# Altium schematic symbol library ERN.SchLib: 24 symbols
Pins are listed as number, name and electrical type; pins without a type are passive.

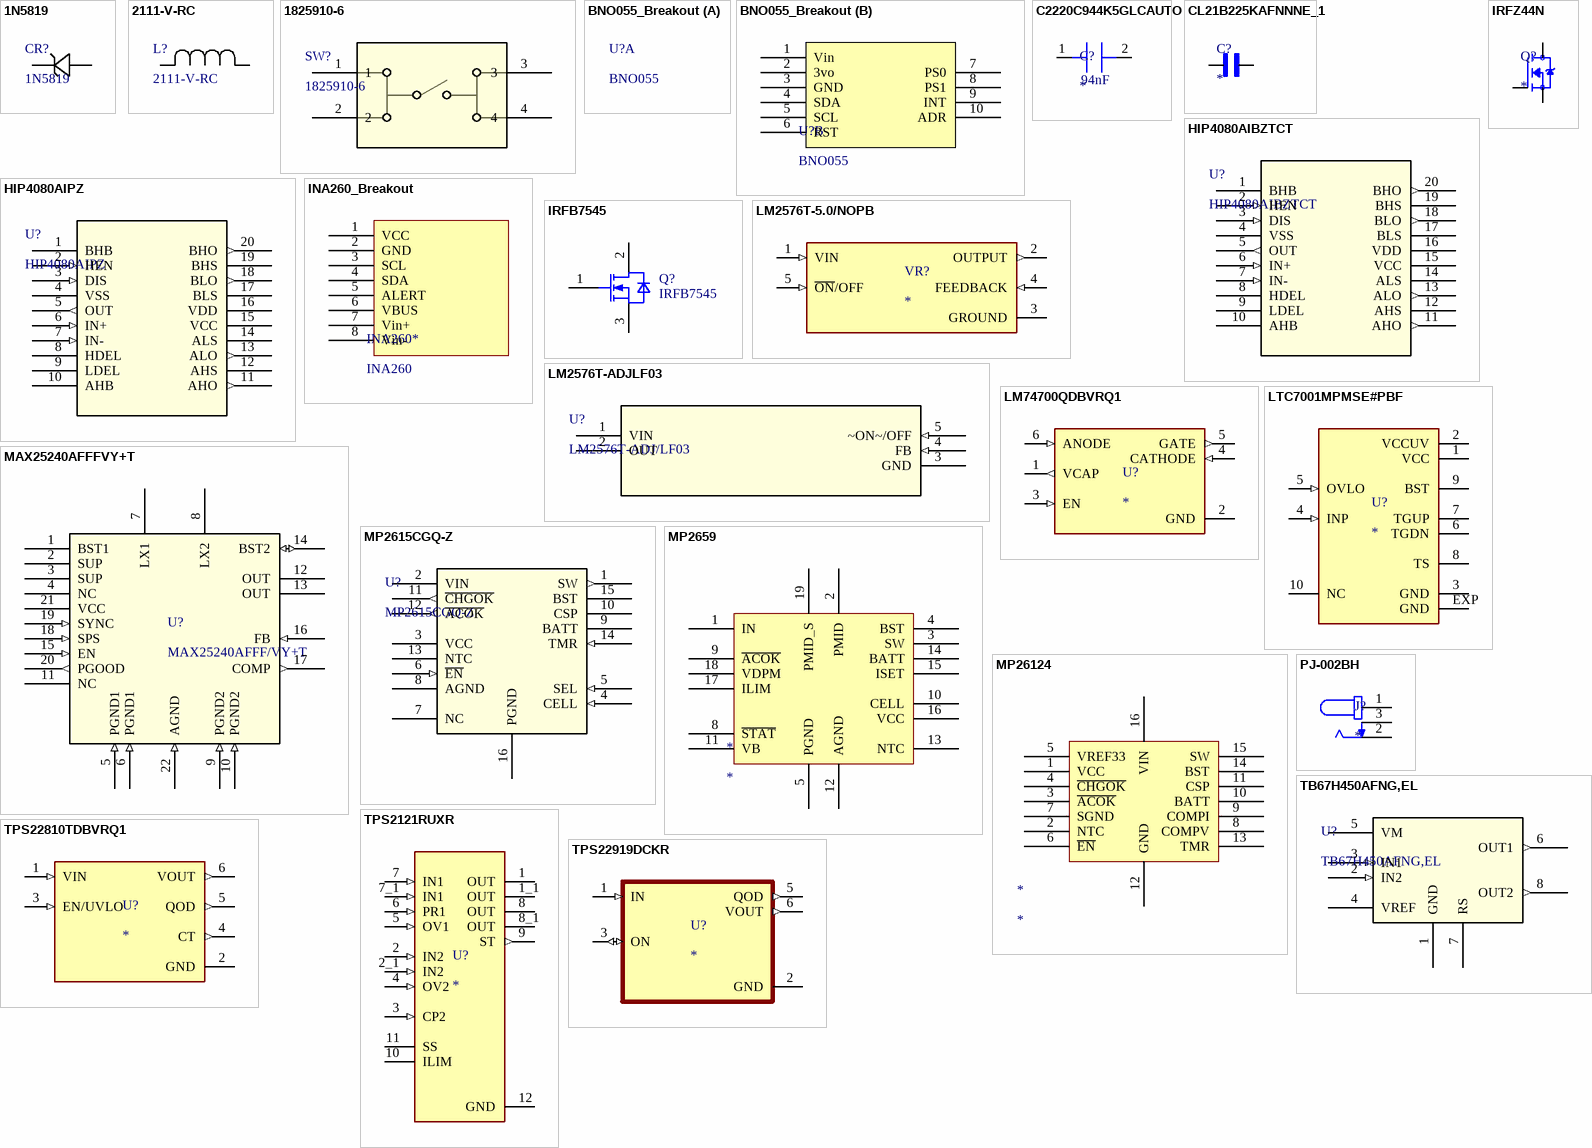
[diagram p0: symbols 1N5819 to TPS22919DCKR]

## 1N5819
designator CR?
40 V, 1 A axial Power Schottky Rectifier; Manufacturer_Name: STMicroelectronics; Copyright: Copyright (C) 2026 Ultra Librarian. All rights reserved.; Manufacturer_Part_Number: 1N5819; Refdes: Refdes
footprint DO-41_STM
footprint BNO055_Breakout (Footprint not found)
pins: 1, 2

## 2111-V-RC
designator L?
Inductor 68uH; Manufacturer_Name: Bourns Electronics; Copyright: Copyright (C) 2026 Ultra Librarian. All rights reserved.; Manufacturer_Part_Number: 2111-V-RC
footprint IND_21XX_27A_V
pins: 1, 2

## 1825910-6
designator SW?
FSM4JH=6MM TACT SWITCH, HIGH TEMP; Manufacturer_Name: TE Connectivity; Copyright: Copyright (C) 2026 Ultra Librarian. All rights reserved.; Manufacturer_Part_Number: 1825910-6; RefDes: RefDes; Type: Type
footprint SW4_1825910-B_TEC
pins: 1, 2, 3, 4

## BNO055_Breakout
designator U?, comment BNO055
Adafruit IMU Breakout
footprint BNO055_Breakout
part B pins: 1 Vin, 2 3vo, 3 GND, 4 SDA, 5 SCL, 6 RST, 7 PS0, 8 PS1, 9 INT, 10 ADR

## C2220C944K5GLCAUTO
designator C?  Capacitance: 94nF
CAP CER 0.94UF 50V C0G/NP0 2220
footprint CAPC5750X39M (Chip Capacitor, 2-Leads, Body 5.70x5.00mm, IPC Low Density)
pins: 1, 2

## CL21B225KAFNNNE_1
designator C?
2.2 ÂµF Â±10% 25V Ceramic Capacitor X7R 0805 (2012 Metric); MF: Samsung; MP: CL21B225KAFNNNE; SnapEDA_Link: https://www.snapeda.com/parts/CL21B225KAFNNNE/Samsung/view-part/?ref=snap; Package: SMD-2 Samsung; Value: *; Check_prices: https://www.snapeda.com/parts/CL21B225KAFNNNE/Samsung/view-part/?ref=eda
footprint CAPC2012X135N
pins: 1, 2

## HIP4080AIBZTCT
designator U?
H Bridge Driver; Manufacturer_Name: Renesas / Intersil; Copyright: Copyright (C) 2026 Ultra Librarian. All rights reserved.; Manufacturer_Part_Number: HIP4080AIBZTCT; RefDes: RefDes; Type: Type
footprint SOIC20_7P60X13_INR
pins: 1 BHB, 2 HEN (in), 3 DIS (in), 4 VSS (power), 5 OUT (out), 6 IN+ (in), 7 IN- (in), 8 HDEL, 9 LDEL, 10 AHB, 11 AHO (out), 12 AHS, 13 ALO (out), 14 ALS, 15 VCC (power), 16 VDD (power), 17 BLS, 18 BLO (out), 19 BHS, 20 BHO (out)

## HIP4080AIPZ
designator U?
No Description Available; Manufacturer_Name: Renesas / Intersil; Copyright: Copyright (C) 2026 Ultra Librarian. All rights reserved.; Manufacturer_Part_Number: HIP4080AIPZ; RefDes: RefDes; Type: Type
footprint PDIP20_7P11X26P9_INR
pins: 1 BHB, 2 HEN (in), 3 DIS (in), 4 VSS (power), 5 OUT (out), 6 IN+ (in), 7 IN- (in), 8 HDEL, 9 LDEL, 10 AHB, 11 AHO (out), 12 AHS, 13 ALO (out), 14 ALS, 15 VCC (power), 16 VDD (power), 17 BLS, 18 BLO (out), 19 BHS, 20 BHO (out)

## INA260_Breakout
designator INA260*, comment INA260
Voltage and current sensor
pins: 1 VCC, 2 GND, 3 SCL, 4 SDA, 5 ALERT, 6 VBUS, 7 Vin+, 8 Vin-

## IRFB7545
designator Q?
N-Channel 60V 95A; Insulated-Gate Field-Effect Transistor (IGFET), N-Channel, Enhancement, Body Diode, Pin 1 Gate, 2 Drain, 3 Source, 3 Pins; Manufacturer: Infineon Technologies; Manufacturer Order Number: IRFB7545; PackageReference: PG-TO220-3-904
footprint IFX-PG-TO220-3-904 (TO,flange mount,2.54mm pitch;3 pin,4.45mm L X 10.66mm W X 19.15mm H body)
pins: 1 GATE, 2 DRAIN, 3 SOURCE

## IRFZ44N
designator Q?
N-Channel 55 V 49A (Tc) 94W (Tc) Through Hole TO-220AB; MP: IRFZ44N; MF: Infineon Technologies; Check_prices: https://www.snapeda.com/parts/IRFZ44N/Infineon+Technologies/view-part/?ref=eda; Package: TO-220-3 Infineon; Value: *; Availability: In Stock; Purchase-URL: https://pricing.snapeda.com/search/part/IRFZ44N/?ref=eda; SnapEDA_Link: https://www.snapeda.com/parts/IRFZ44N/Infineon+Technologies/view-part/?ref=snap; Price: None
footprint TO254P1016X419X2286-3
pins: 1 G, 2 D, 3 S

## LM2576T-5.0/NOPB
designator VR?
SIMPLE SWITCHERÂ® 40V, 3A Low Component Count Step-Down Regulator; MF: Texas Instruments; MP: LM2576T-5.0/NOPB; SnapEDA_Link: https://www.snapeda.com/parts/LM2576T-5.0/NOPB/Texas+Instruments/view-part/?ref=snap; Package: TO-220-5 Texas Instruments; Value: *; Check_prices: https://www.snapeda.com/parts/LM2576T-5.0/NOPB/Texas+Instruments/view-part/?ref=eda
footprint TO170P1067X483X1651-5
footprint T05A_TEX
pins: 1 VIN (in), 2 OUTPUT (out), 3 GROUND (power), 4 FEEDBACK (in), 5 ~{ON}/OFF (in)

## LM2576T-ADJLF03
designator U?, comment LM2576T-ADJ/LF03
SIMPLE SWITCHER&reg; 40V, 3A Low Component Count Step-Down Regulator 5-TO-220; Manufacturer_Name: Texas Instruments; Copyright: Copyright (C) 2026 Ultra Librarian. All rights reserved.; Manufacturer_Part_Number: LM2576T-ADJ/LF03; Datasheet: https://www.ti.com/lit/gpn/lm2576; RefDes: RefDes; Type: Type
footprint T05A_TEX
pins: 1 VIN (power), 2 OUT (power), 3 GND (power), 4 FB (in), 5 ~ON~/OFF (in)

## LM74700QDBVRQ1
designator U?
3.2-V to 65-V, 80-uA IQ automotive ideal diode controller; MF: Texas Instruments; MP: LM74700QDBVRQ1; SnapEDA_Link: https://www.snapeda.com/parts/LM74700QDBVRQ1/Texas+Instruments/view-part/?ref=snap; Package: SOT-23-6 Texas Instruments; Value: *; Check_prices: https://www.snapeda.com/parts/LM74700QDBVRQ1/Texas+Instruments/view-part/?ref=eda
footprint SOT95P280X145-6N
pins: 1 VCAP (out), 2 GND (power), 3 EN (in), 4 CATHODE (in), 5 GATE (out), 6 ANODE (in)

## LTC7001MPMSE#PBF
designator U?
Fast 150V High Side NMOS Static Switch Driver; MF: Analog Devices; MP: LTC7001MPMSE#PBF; SnapEDA_Link: https://www.snapeda.com/parts/LTC7001MPMSE%23PBF/Analog+Devices/view-part/?ref=snap; Package: MSOP -10 Analog Devices; Value: *; Check_prices: https://www.snapeda.com/parts/LTC7001MPMSE%23PBF/Analog+Devices/view-part/?ref=eda
footprint SOP50P490X110-11N
pins: 1 VCC (power), 2 VCCUV (power), 3 GND (power), 4 INP (in), 5 OVLO (in), 6 TGDN, 7 TGUP, 8 TS, 9 BST, 10 NC, EXP GND (power)

## MAX25240AFFFVY+T
designator U?, comment MAX25240AFFF/VY+T
Automotive 2V to 36V, 6A Buck-Boost Converters; Manufacturer_Name: Analog Devices Inc; Type: RF; Copyright: Copyright (C) 2025 Ultra Librarian. All rights reserved.; Manufacturer_Part_Number: MAX25240AFFF/VY+T; RefDes: RefDes
footprint 21-100399_90-100137_ADI - duplicate
pins: 1 BST1 (power), 2 SUP (power), 3 SUP (power), 4 NC, 5 PGND1 (in), 6 PGND1 (in), 7 LX1 (power), 8 LX2 (power), 9 PGND2 (in), 10 PGND2 (in), 11 NC, 12 OUT (power), 13 OUT (power), 14 BST2 (io), 15 EN (in), 16 FB (in), 17 COMP (out), 18 SPS (in), 19 SYNC (in), 20 PGOOD (out), 21 VCC (power), 22 AGND (in)

## MP2615CGQ-Z
designator U?
2.1A 1- or 2-Cell Li-ion Battery Charger with 25mohm Rsns; Manufacturer_Name: Monolithic Power Systems; Copyright: Copyright (C) 2026 Ultra Librarian. All rights reserved.; Manufacturer_Part_Number: MP2615CGQ-Z; RefDes: RefDes; Type: Type
footprint QFN-16_3MM×3MM_MNP_MPS
pins: 1 SW (out), 2 VIN (power), 3 VCC (power), 4 CELL (in), 5 SEL (in), 6 ~{EN} (in), 7 NC, 8 AGND (power), 9 BATT (power), 10 CSP (power), 11 ~{CHGOK} (out), 12 ~{ACOK} (out), 13 NTC (power), 14 TMR (in), 15 BST (power), 16 PGND (power)

## MP2659
designator *
3S-6S Standalone Switching Charger
pins: 1 IN, 2 PMID, 3 SW, 4 BST, 5 PGND, 8 ~{STAT}, 9 ~{ACOK}, 10 CELL, 11 VB, 12 AGND, 13 NTC, 14 BATT, 15 ISET, 16 VCC, 17 ILIM, 18 VDPM, 19 PMID_S

## MP26124
designator *
24V Input, 2A, 600kHz, 4S Cell Switching Li-Ion Battery Charger
footprint QFN65P400X400X100_HS-17N (QFN, 16-Leads, Body 4.00x4.00mm, Pitch 0.65mm, Thermal Pad 2.30x2.30mm, IPC Medium Density)
pins: 1 VCC, 2 NTC, 3 ~{ACOK}, 4 ~{CHGOK}, 5 VREF33, 6 ~{EN}, 7 SGND, 8 COMPV, 9 COMPI, 10 BATT, 11 CSP, 12 GND, 13 TMR, 14 BST, 15 SW, 16 VIN

## PJ-002BH
designator J?
2.5 x 6.5 mm, 5.0 A, Horizontal, Through Hole, Dc Power Jack Connector; MF: Same Sky; MP: PJ-002BH; SnapEDA_Link: https://www.snapeda.com/parts/PJ-002BH/Same+Sky/view-part/?ref=snap; Package: None; Value: *; Check_prices: https://www.snapeda.com/parts/PJ-002BH/Same+Sky/view-part/?ref=eda
footprint CUI_PJ-002BH
pins: 1, 2, 3

## TB67H450AFNG,EL
designator U?
Toshiba Motor Driver IC; Manufacturer_Name: Toshiba Electronic Devices & Storage Corp.; Copyright: Copyright (C) 2025 Ultra Librarian. All rights reserved.; Manufacturer_Part_Number: TB67H450AFNG,EL; RefDes: RefDes; Type: Type
footprint P-HSOP8-0405-1.27-002_TOS
pins: 1 GND (power), 2 IN2 (in), 3 IN1 (in), 4 VREF, 5 VM (power), 6 OUT1 (out), 7 RS, 8 OUT2 (out)

## TPS2121RUXR
designator U?
2.7-V&nbsp;to 22-V, 56-mâ„¦, 4.5-A, power mux with seamless switchover; MF: Texas Instruments; MP: TPS2121RUXR; Package: VQFN-HR-12 Texas Instruments; Price: None; Check_prices: https://www.snapeda.com/parts/TPS2121RUXR/Texas+Instruments/view-part/?ref=eda; Value: *; SnapEDA_Link: https://www.snapeda.com/parts/TPS2121RUXR/Texas+Instruments/view-part/?ref=snap; Availability: In Stock; Purchase-URL: https://pricing.snapeda.com/search?q=TPS2121RUXR&ref=eda
footprint IC_TPS2121RUXR
pins: 1 OUT (power), 1_1 OUT (power), 2 IN2 (in), 2_1 IN2 (in), 3 CP2 (in), 4 OV2 (in), 5 OV1 (in), 6 PR1 (in), 7 IN1 (in), 7_1 IN1 (in), 8 OUT (power), 8_1 OUT (power), 9 ST (out), 10 ILIM, 11 SS, 12 GND (power)

## TPS22810TDBVRQ1
designator U?
Automotive 1-channel, 18-V, 2-A, 79-mâ„¦ load switch with adj. rise time and adj. output discharge; MF: Texas Instruments; MP: TPS22810TDBVRQ1; SnapEDA_Link: https://www.snapeda.com/parts/TPS22810TDBVRQ1/Texas+Instruments/view-part/?ref=snap; Package: SOT-23-6 Texas Instruments; Value: *; Check_prices: https://www.snapeda.com/parts/TPS22810TDBVRQ1/Texas+Instruments/view-part/?ref=eda
footprint SOT95P280X145-6N
pins: 1 VIN (in), 2 GND (power), 3 EN/UVLO (in), 4 CT (out), 5 QOD (out), 6 VOUT (out)

## TPS22919DCKR
designator U?
5.5-V, 1.5-A, 90-mÎ© load switch with adj. output discharge; MF: Texas Instruments; MP: TPS22919DCKR; SnapEDA_Link: https://www.snapeda.com/parts/TPS22919DCKR/Texas+Instruments/view-part/?ref=snap; Package: SOT-SC70-6 Texas Instruments; Value: *; Check_prices: https://www.snapeda.com/parts/TPS22919DCKR/Texas+Instruments/view-part/?ref=eda
footprint SOT65P210X110-6N
pins: 1 IN (in), 2 GND (power), 3 ON (io), 5 QOD (out), 6 VOUT (out)